# EAGLE library part MAX668 (library maxim)
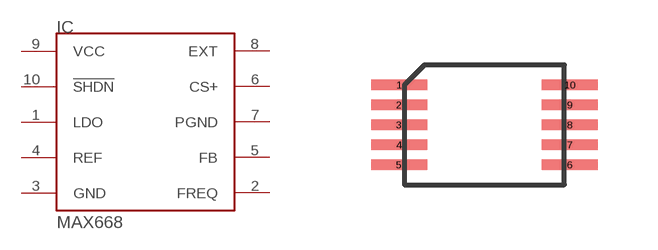
[diagram p5: symbol with the pads of UMAX10NOEP; footprint UMAX10NOEP]

Designator prefix IC

## MAX668  [UMAX10NOEP]
1  LDO
2  FREQ
3  GND  pas
4  REF  pas
5  FB
6  CS+
7  PGND
8  EXT
9  VCC  pwr
10  !SHDN

## Footprint UMAX10NOEP (pad centres in mm)
smd 1.4 x 0.27: 1 -2.135,1; 2 -2.135,0.5; 3 -2.135,0; 4 -2.135,-0.5; 5 -2.135,-1; 6 2.135,-1; 7 2.135,-0.5; 8 2.135,0; 9 2.135,0.5; 10 2.135,1